# EAGLE library part MICRO_SD_HALTER (library hsa_stm32_discovery_board)
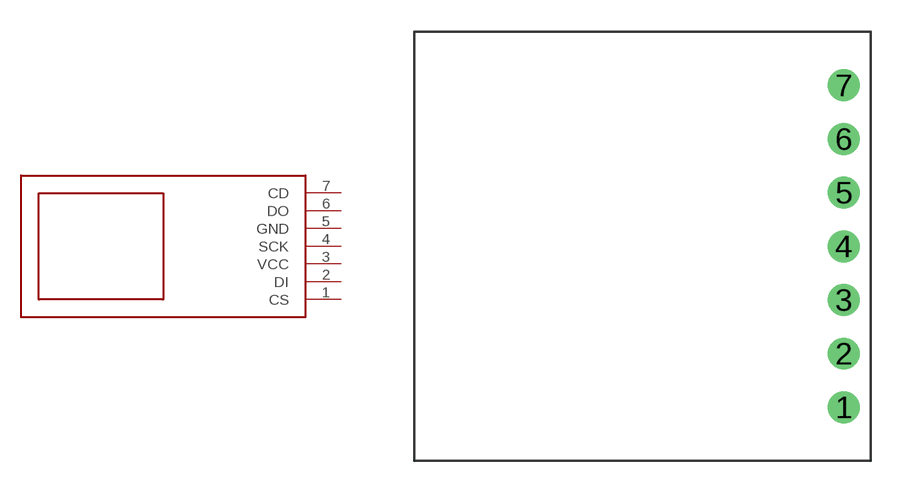
[diagram p1: symbol with the pads of MIKRO_SD_HALTER; footprint MIKRO_SD_HALTER]

Designator prefix -

## MICRO_SD_HALTER  [MIKRO_SD_HALTER]
1  CS
2  DI
3  VCC
4  SCK
5  GND
6  DO
7  CD

## Footprint MIKRO_SD_HALTER (pad centres in mm)
drill 1: 1 20.32,2.54; 2 20.32,5.08; 3 20.32,7.62; 4 20.32,10.16; 5 20.32,12.7; 6 20.32,15.24; 7 20.32,17.78